# Altium footprint library PcbLib.PcbLib: 1 footprints
Each footprint in its own frame and in the unit in brackets; x right, y up, seen from the top. Pads: shape width x height; smd on the part's side, far side on the other; paste and mask are expansions set on the pad; w line width, h text height; cw(c..) or ccw(c..) is an arc to the next point about the centre after c.
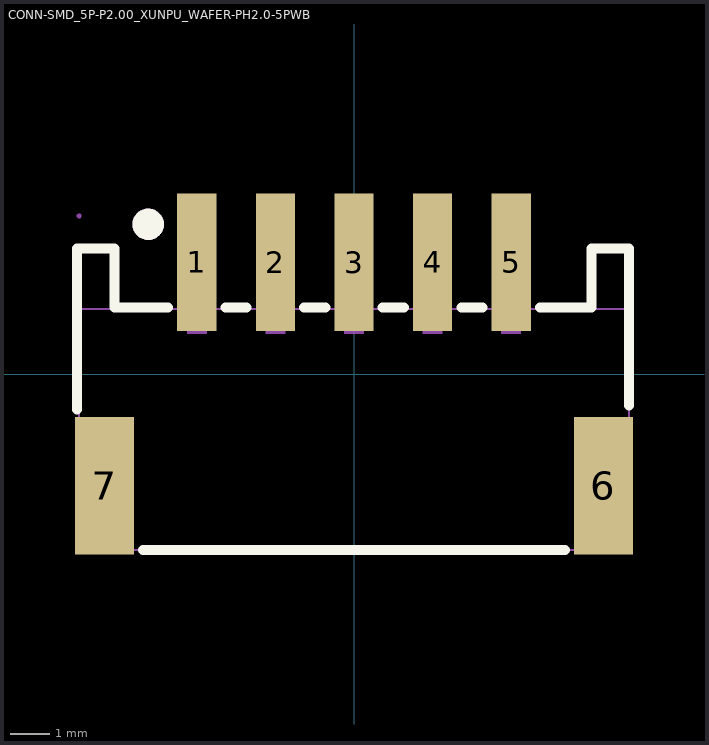
[diagram p0: the footprint, top view; thin cyan lines are the x and y axes]

## CONN-SMD_5P-P2.00_XUNPU_WAFER-PH2.0-5PWB [mm]
pads (7):
  rect 1x3.5 smd paste+0 mask+0.05: 1(-4,2.85) 2(-2,2.85) 3(0,2.85) 4(2,2.85) 5(4,2.85)
  rect 1.5x3.5 smd paste+0 mask+0.05: 6(6.35,-2.85) 7(-6.35,-2.85)
Top Overlay:
  circle w0.4: c-5.239,3.81 r0.2
  lines w0.254: -7.048,-0.898 -7.048,3.196 -6.097,3.196 -6.097,1.697 -4.779,1.697 -4.731,1.697 ; -5.369,-4.475 1.131,-4.475 ; -3.269,1.697 -2.731,1.697 ; -2.836,-4.475 5.369,-4.475 ; -1.269,1.697 -0.731,1.697 ; 0.731,1.697 1.269,1.697 ; 2.731,1.697 3.269,1.697 ; 4.731,1.697 6.049,1.697 6.049,3.196 7,3.196 7,-0.798
Mechanical 6:
  circle w0.4: c-5.239,3.81 r0.2
Top Component Outline:
  region: -6.94,4.025 -6.94,4.05 -6.975,4.085 -7.025,4.085 -7.06,4.05 -7.06,4.025 -7.06,4 -7.025,3.965 -6.975,3.965 -6.94,4 -6.94,4.025
  region: 6.25,-1.35 6.55,-1.35 6.55,-4.35 6.25,-4.35
  region: -6.55,-1.35 -6.25,-1.35 -6.25,-4.35 -6.55,-4.35
  region: 3.75,4.025 4.25,4.025 4.25,1.025 3.75,1.025
  region: 1.75,4.025 2.25,4.025 2.25,1.025 1.75,1.025
  region: -0.25,4.025 0.25,4.025 0.25,1.025 -0.25,1.025
  region: -2.25,4.025 -1.75,4.025 -1.75,1.025 -2.25,1.025
  region: -4.25,4.025 -3.75,4.025 -3.75,1.025 -4.25,1.025
  lines w0.051: -7,-4.475 7,-4.475 7,1.655 -7,1.655 -7,-4.475
3D body "5Pin.step": height 5.6, standoff 0, extent -7,-4.519 7,3.981